# Altium schematic symbol library XTD Module.SCHLIB: 77 symbols
Pins are listed as number, name and electrical type; pins without a type are passive.

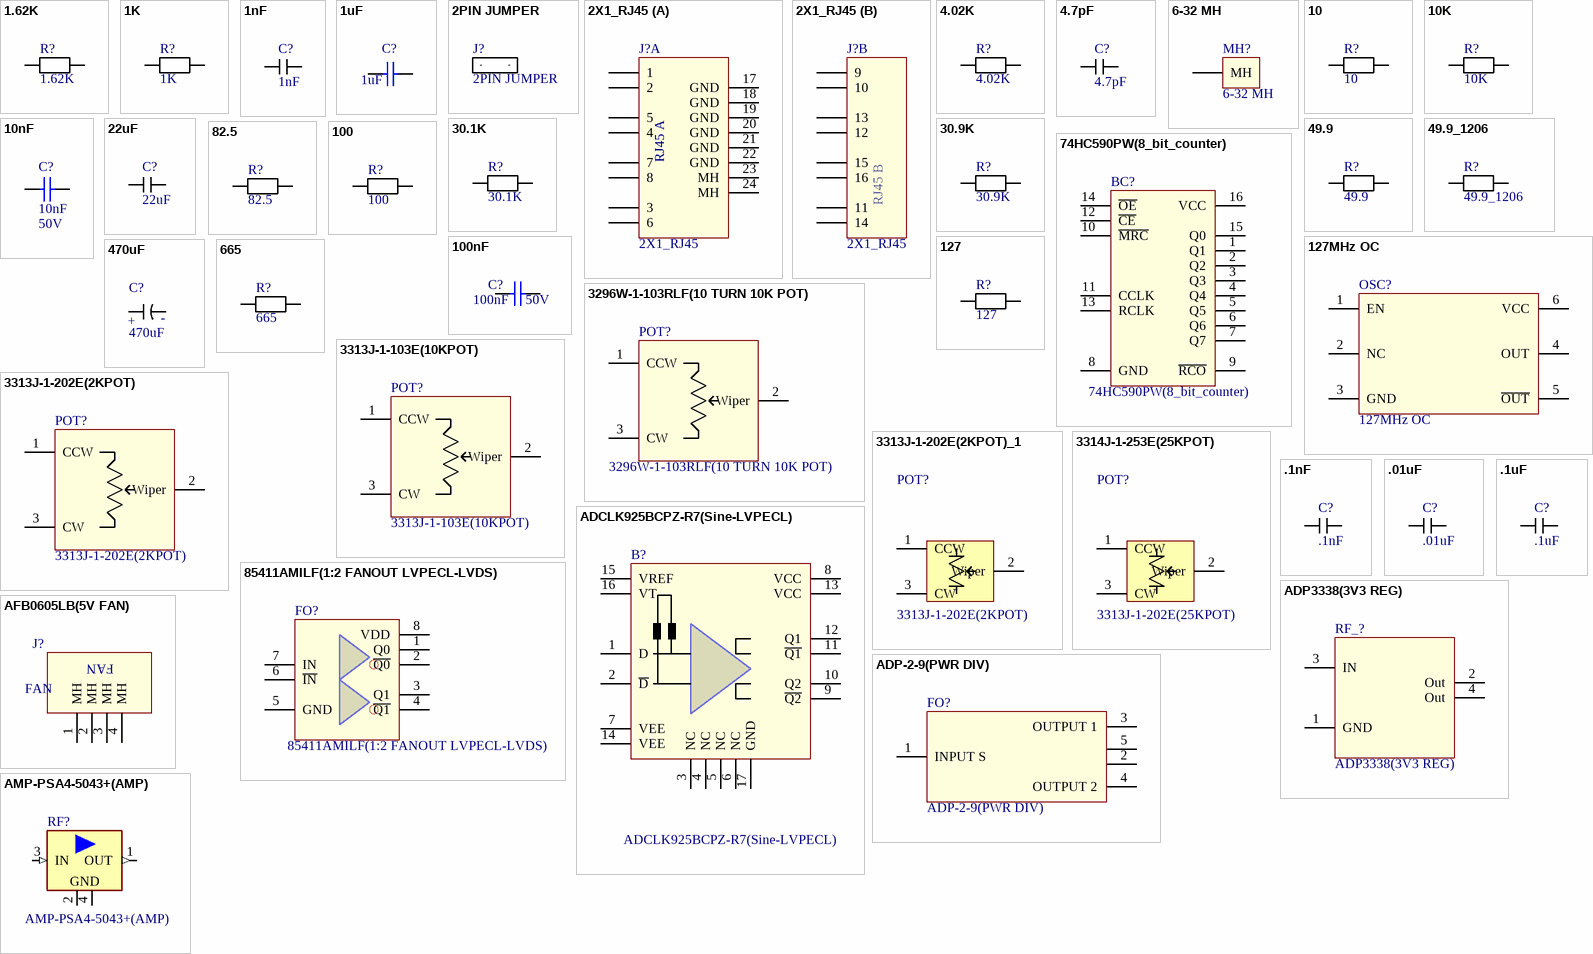
[diagram p0: symbols 1.62K to AMP-PSA4-5043+(AMP)]

## 1.62K
designator R?
RES SMD 1.62K OHM 1% 1/16W 0402; Manufacturer: Samsung Electro-Mechanics America, Inc.; Manufacturer part #: RC1005F1621CS; Cost: $0.10; Package size: RES SMD 0402; Supplier 1: Digi-Key; Supplier Part Number 1: 1276-4034-1-ND
footprint 0402 (0.039" L x 0.020" W (1.00mm x 0.50mm))
pins: 1, 2

## 1K
designator R?
RES SMD 1K OHM 5% 1/16W 0402; Manufacturer: Samsung Electro-Mechanics America, Inc.; Manufacturer part #: RC1005J102CS; Cost: $0.10; Package size: RES SMD 0402; Supplier 1: Digi-Key; Supplier Part Number 1: 1276-4376-1-ND
footprint 0402 (0.039" L x 0.020" W (1.00mm x 0.50mm))
pins: 1, 2

## 1nF
designator C?
CAP CER 1000PF 50V X7R 0402; Manufacturer: Samsung Electro-Mechanics America, Inc.; Manufacturer part #: CL05B102KB5NNNC; Cost: $0.10; Package size: CAP SMD 0402; Supplier 1: Digi-Key; Supplier Part Number 1: 1276-1032-1-ND
footprint 0402 (0.039" L x 0.020" W (1.00mm x 0.50mm))
pins: 1, 2

## 1uF
designator C?
CAP CER 1UF 25V X7R 0603; Tech: SMDR; Voltage rating: 50V; Supplier 1: Digi-Key; Supplier Part Number 1: 490-5307-1-ND; Package: Cap Chip 0603; cost: $0.28
signal-integrity model Model Name (Model Description)
footprint 0603 (0.063" L x 0.031" W (1.60mm x 0.80mm))
pins: 1, 2

## 2PIN JUMPER
designator J?
TWO PIN JUMPER; Cost: $; Supplier 1: Digi-Key; Supplier Part Number 1: 1276-4328-1-ND
footprint 2 PIN HEADER
pins: 1, 2

## 2X1_RJ45
designator J?
CONN MOD JACK 8P8C R/A SHIELDED; Manufacturer: EDAC Inc.; Manufacturer part #: A00-216-672-450; cost: $7.09; Package size: 2X1_RIGHT ANGLE_RJ-45; Supplier 1: Digi-Key; Supplier Part Number 1: 151-1076-ND
footprint 2X1 RJ45 (DOUBLE_RIGHT ANGLE_RJ-45)
part A pins: 1, 2, 3, 4, 5, 6, 7, 8, 17 GND, 18 GND, 19 GND, 20 GND, 21 GND, 22 GND, 23 MH, 24 MH
part B pins: 9, 10, 11, 12, 13, 14, 15, 16
part A text: RJ45 A
part B text: RJ45 B

## 4.02K
designator R?
RES SMD 4.02K OHM 1% 1/16W 0402; Manufacturer: Samsung Electro-Mechanics America, Inc.; Manufacturer part #: RC1005F4021CS; Digikey #: 1276-4075-1-ND; Cost: $0.10; Package size: RES SMD 0402; Supplier 1: Digi-Key; Supplier Part Number 1: 1276-4075-1-ND
footprint 0402 (0.039" L x 0.020" W (1.00mm x 0.50mm))
pins: 1, 2

## 4.7pF
designator C?
CAP CER 4.7PF 50V NP0 0603; Manufacturer: Samsung Electro-Mechanics America, Inc.; Manufacturer part #: CL10C4R7CB8NNNC; Cost: $0.10; Package size: CAP SMD 0603; Supplier 1: Digi-Key; Supplier Part Number 1: 1276-1282-1-ND
footprint 0603 (0.063" L x 0.031" W (1.60mm x 0.80mm))
pins: 1 "GROUND", 2

## 6-32 MH
designator MH?
6-32 MOUNTING HOLE
footprint 6-32 MH (6-32 MOUNTING HOLE)
pins: 1 MH

## 10
designator R?
RES SMD 10 OHM 5% 1/16W 0402; Manufacturer: Samsung Electro-Mechanics America, Inc.; Manufacturer part #: RC1005J100CS; Digikey #: 1276-4328-1-ND; Cost: $0.10; Package size: RES SMD 0402; Supplier 1: Digi-Key; Supplier Part Number 1: 1276-4328-1-ND
footprint 0402 (0.039" L x 0.020" W (1.00mm x 0.50mm))
pins: 1, 2

## 10K
designator R?
RES SMD 10K OHM 5% 1/16W 0402; Manufacturer: Samsung Electro-Mechanics America, Inc.; Manufacturer part #: RC1005F4021CS; Cost: $0.10; Package size: RES SMD 0402; Supplier 1: Digi-Key; Supplier Part Number 1: 1276-4400-1-ND
footprint 0402 (0.039" L x 0.020" W (1.00mm x 0.50mm))
pins: 1, 2

## 10nF
designator C?  Voltage rating: 50V
CAP CER 10000PF 50V X7R 0402; Manufacturer: Murata; Manufacturer No: GRM155R71H103KA88D; Tech: SMDR; Package: Cap Chip 0402; Supplier 2: Digi-Key; Supplier Part Number 2: 490-4516-1-ND; Supplier 1: Digi-Key; Supplier Part Number 1: 490-4516-1-ND; cost: $0.10
footprint 0402 (0.039" L x 0.020" W (1.00mm x 0.50mm))
pins: 1, 2

## 22uF
designator C?
CAP CER 22UF 6.3V X5R 0603; Manufacturer: Samsung Electro-Mechanics America, Inc.; Manufacturer part #: CL10A226KQ8NRNE; Cost: $0.33; Package size: CAP SMD 0603; Supplier 1: Digi-Key; Supplier Part Number 1: 1276-2867-1-ND
footprint 0603 (0.063" L x 0.031" W (1.60mm x 0.80mm))
pins: 1 "GROUND", 2

## 30.1K
designator R?
RES SMD 30.1K OHM 1% 1/16W 0402; Manufacturer: Samsung Electro-Mechanics America, Inc.; Manufacturer part #: RC1005F3012CS; Cost: $0.10; Package size: RES SMD 0402; Supplier 1: Digi-Key; Supplier Part Number 1: 1276-3457-1-ND
footprint 0402 (0.039" L x 0.020" W (1.00mm x 0.50mm))
pins: 1, 2

## 30.9K
designator R?
RES SMD 30.9K OHM 1% 1/10W 0402; Manufacturer: Panasonic Electronic Components; Manufacturer part #: ERJ-2RKF3092X; Cost: $0.10; Package size: RES SMD 0402; Supplier 1: Digi-Key; Supplier Part Number 1: P30.9KLCT-ND
footprint 0402 (0.039" L x 0.020" W (1.00mm x 0.50mm))
pins: 1, 2

## 49.9
designator R?
RES SMD 49.9 OHM 1% 1/16W 0402; Manufacturer: Samsung Electro-Mechanics America, Inc.; Manufacturer part #: RC1005F49R9CS; Cost: $0.10; Package size: RES SMD 0402; Supplier 1: Digi-Key; Supplier Part Number 1: 1276-3469-6-ND
footprint 0402 (0.039" L x 0.020" W (1.00mm x 0.50mm))
pins: 1, 2

## 49.9_1206
designator R?
RES SMD 49.9 OHM 1% 1/2W 1206; Manufacturer: Stackpole Electronics Inc.; Manufacturer part #: RNCP1206FTD49R9; Cost: $0.10; Package size: RES SMD 1206; Supplier 1: Digi-Key; Supplier Part Number 1: RNCP1206FTD49R9CT-ND
footprint RC1206N1X (Chip resistor 1206)
pins: 1, 2

## 74HC590PW(8_bit_counter)
designator BC?
IC BINARY COUNTER 8BIT 16-TSSOP; Manufacturer: NXP Semiconductors; Manufacturer part #: 74HC590PW,118; Cost: $0.60; Package size: 16-TSSOP (0.173", 4.40mm Width); Supplier 1: Digi-Key; Supplier Part Number 1: 568-8896-1-ND
footprint TSSOP_16pin (TSOP, 16-Leads, Body 5.00x4.40mm, Pitch 0.65mm, IPC Medium Density)
pins: 1 Q1, 2 Q2, 3 Q3, 4 Q4, 5 Q5, 6 Q6, 7 Q7, 8 GND, 9 ~{RCO}, 10 ~{MRC}, 11 CCLK, 12 ~{CE}, 13 RCLK, 14 ~{OE}, 15 Q0, 16 VCC

## 82.5
designator R?
RES SMD 82.5 OHM 1% 1/16W 0402; Manufacturer: Samsung Electro-Mechanics America, Inc.; Manufacturer part #: RC1005F82R5CS; Cost: $0.10; Package size: RES SMD 0402; Supplier 1: Digi-Key; Supplier Part Number 1: 1276-3937-1-ND
footprint 0402 (0.039" L x 0.020" W (1.00mm x 0.50mm))
pins: 1, 2

## 100
designator R?
RES SMD 100 OHM 5% 1/16W 0402; Manufacturer: Samsung Electro-Mechanics America, Inc.; Manufacturer part #: RC1005J101CS; Cost: $0.10; Package size: RES SMD 0402; Supplier 1: Digi-Key; Supplier Part Number 1: 1276-4352-1-ND
footprint 0402 (0.039" L x 0.020" W (1.00mm x 0.50mm))
pins: 1, 2

## 100nF
designator C?  Voltage rating: 50V
Capacitor chip ceramic 0402 50V X7R; Manufacturer: TDK; Manufacturer No: C1005X7R1H104K050BB; Tech: SMDR; Package: Cap Chip 0402; Supplier 1: Digi-Key; Supplier Part Number 1: 445-5932-1-ND; cost: $0.15
signal-integrity model Model Name (Model Description)
footprint 0402 (0.039" L x 0.020" W (1.00mm x 0.50mm))
pins: 1, 2

## 127
designator R?
RES SMD 127 OHM 1% 1/16W 0402; Manufacturer: Samsung Electro-Mechanics America, Inc.; Manufacturer part #: RC1005F1270CS; Cost: $0.10; Package size: RES SMD 0402; Supplier 1: Digi-Key; Supplier Part Number 1: 1276-3950-1-ND
footprint 0402 (0.039" L x 0.020" W (1.00mm x 0.50mm))
pins: 1, 2

## 127MHz OC
designator OSC?
OSC VCO 127.21MHZ; Cost: $; Package size: 6-QFN
footprint 127MHz OC
pins: 1 EN "ENABLE/DISABLE", 2 NC, 3 GND "GROUND", 4 OUT "NONEINVERTED OUTPUT", 5 ~{OUT} "INVERTED OUTPUT", 6 VCC "POWER INPUT"

## 470uF
designator C?
CAP ALUM 470UF 20% 50V RADIAL; Manufacturer: Nichicon; Manufacturer part #: UPW1H471MHD; Cost: $0.75; Package size: Through Hole CAP; Supplier 1: Digi-Key; Supplier Part Number 1: 493-1911-ND
footprint CAP_TH
pins: 1 "GROUND", 2
text: +; -

## 665
designator R?
RES SMD 665 OHM 1% 1/16W 0402; Manufacturer: Samsung Electro-Mechanics America, Inc.; Manufacturer part #: RC1005F6650CS; Cost: $0.10; Package size: RES SMD 0402; Supplier 1: Digi-Key; Supplier Part Number 1: 1276-4003-1-ND
footprint 0402 (0.039" L x 0.020" W (1.00mm x 0.50mm))
pins: 1, 2

## 3296W-1-103RLF(10 TURN 10K POT)
designator POT?
TRIMMER 10K OHM 0.5W PC PIN; Manufacturer: Bourns Inc.; cost: $3.93; Manufacturer part #: 3296W-1-103RLF; Package size: Rectangular - 0.375" x 0.190" Face x 0.395" H; Supplier 1: Digi-Key; Supplier Part Number 1: 3296W-1-103RLFCT-ND
footprint 10K POT (TRIMMER 10K OHM 0.5W PC PIN)
pins: 1 CCW "Control Votage", 2 Wiper "Ground", 3 CW "Supply Voltage"

## 3313J-1-103E(10KPOT)
designator POT?
TRIMMER 10K OHM 0.125W SMD; Manufacturer: Bourns Inc.; cost: $2.08; Manufacturer part #: 3313J-1-103E; Package size: Rectangular - 0.138" x 0.126" Face x 0.087" H (3.50mm x 3.20mm x 2.20mm); Supplier 1: Digi-Key; Supplier Part Number 1: 3313J-103ECT-ND
footprint 2KPOT (TRIMMER 2K OHM 0.125W SMD)
pins: 1 CCW "Control Votage", 2 Wiper "Ground", 3 CW "Supply Voltage"

## 3313J-1-202E(2KPOT)
designator POT?
TRIMMER 2K OHM 0.125W SMD; Manufacturer: Bourns Inc.; cost: $2.08; Manufacturer part #: 3313J-1-202E; Package size: Rectangular - 0.138" x 0.126" Face x 0.087" H (3.50mm x 3.20mm x 2.20mm); Supplier 1: Digi-Key; Supplier Part Number 1: 3313J-202ECT-ND
footprint 2KPOT (TRIMMER 2K OHM 0.125W SMD)
pins: 1 CCW "Control Votage", 2 Wiper "Ground", 3 CW "Supply Voltage"

## 3313J-1-202E(2KPOT)_1
designator POT?, comment 3313J-1-202E(2KPOT)
TRIMMER 2K OHM 0.125W SMD; Manufacturer: Bourns Inc.; cost: $2.08; Manufacturer part #: 3313J-1-202E; Package size: Rectangular - 0.138" x 0.126" Face x 0.087" H (3.50mm x 3.20mm x 2.20mm); Supplier 1: Digi-Key; Supplier Part Number 1: 3313J-202ECT-ND
footprint 2KPOT (TRIMMER 2K OHM 0.125W SMD)
pins: 1 CCW "Control Votage", 2 Wiper "Ground", 3 CW "Supply Voltage"

## 3314J-1-253E(25KPOT)
designator POT?, comment 3313J-1-202E(25KPOT)
TRIMMER 25K OHM 0.125W SMD; Manufacturer: Bourns Inc.; Manufacturer part #: 3314J-1-253E; cost: $2.08; Package size: Rectangular - 0.138" x 0.126" Face x 0.087" H (3.50mm x 3.20mm x 2.20mm); Supplier 1: Newark; Supplier Part Number 1: 06X9027; Supplier 2: Digi-Key; Supplier Part Number 2: 3314J-253EDKR-ND; Supplier 3: Digi-Key; Supplier Part Number 3: 3314J-253ECT-ND; Supplier 4: Digi-Key; Supplier Part Number 4: 3314J-253ETR-ND
footprint 2KPOT (TRIMMER 2K OHM 0.125W SMD)
pins: 1 CCW "Control Votage", 2 Wiper "Ground", 3 CW "Supply Voltage"

## 85411AMILF(1:2 FANOUT LVPECL-LVDS)
designator FO?
IC CLK BUFFER 1:2 650MHZ 8SOIC; Manufacturer: IDT, Integrated Device Technology Inc; cost: $11.13; Manufacturer part #: 85411AMILF; Package size: 8-SOIC (0.154", 3.90mm Width); Supplier 1: Digi-Key; Supplier Part Number 1: 800-2073-ND
footprint SOIC_8pin (SOIC, 8-Leads, Body 5.00x4.00mm, Pitch 1.27mm, IPC Medium Density)
pins: 1 Q0, 2 ~{Q0}, 3 Q1, 4 ~{Q1}, 5 GND, 6 ~{IN}, 7 IN, 8 VDD

## .1nF
designator C?
CAP CER 100PF 50V NP0 0603; Manufacturer: Samsung Electro-Mechanics America, Inc.; Manufacturer part #: CL10C101JB8NNNC; Cost: $0.10; Package size: CAP 0603; Supplier 1: Digi-Key; Supplier Part Number 1: 1276-1008-1-ND
footprint 0603 (0.063" L x 0.031" W (1.60mm x 0.80mm))
pins: 1 "GROUND", 2

## .01uF
designator C?
CAP CER 10000PF 50V X7R 0603; Manufacturer: Samsung Electro-Mechanics America, Inc.; Manufacturer part #: CL10B103KB8NCNC; Cost: $0.10; Package size: CAP 0603; Supplier 1: Digi-Key; Supplier Part Number 1: 1276-1921-1-ND; Supplier 2: Digi-Key; Supplier Part Number 2: 1276-1921-6-ND
footprint 0603 (0.063" L x 0.031" W (1.60mm x 0.80mm))
pins: 1 "GROUND", 2

## .1uF
designator C?
CAP CER 0.1UF 50V X7R 0603; Manufacturer: Samsung Electro-Mechanics America, Inc.; Manufacturer part: CL10B104KB8SFNC; Cost: $0.10; Package size: CAP SMD 0603; Supplier 1: Digi-Key; Supplier Part Number 1: 1276-1936-1-ND
footprint 0603 (0.063" L x 0.031" W (1.60mm x 0.80mm))
pins: 1 "GROUND", 2

## ADCLK925BCPZ-R7(Sine-LVPECL)
designator B?
IC CLK BUFFER 1:2 7.5GHZ 16LFCSP; Manufacturer: Analog Devices Inc.; cost: $11.54; Manufacturer part #: ADCLK925BCPZ-R7; Package size: 16-VFQFN Exposed Pad, CSP; Supplier 1: Digi-Key; Supplier Part Number 1: ADCLK925BCPZ-R7CT-ND
footprint QFN_16pin (QFN, 16-Leads, Body 3.00x3.00mm, Pitch 0.50mm, Thermal Pad 1.50x1.50mm, IPC Medium Density)
pins: 1 D "Noninverting Input", 2 ~{D} "Inverting Input", 3 NC "No Connect", 4 NC "No Connect", 5 NC "No Connect", 6 NC "No Connect", 7 VEE "Negative Supply Voltage.", 8 VCC "Positive Supply Voltage.", 9 ~{Q2} "Inverting Output 2.", 10 Q2 "Noninverting Output 2.", 11 ~{Q1} "Inverting Output 1.", 12 Q1 "Noninverting Output 1.", 13 VCC "Positive Supply Voltage.", 14 VEE "Negative Supply Voltage.", 15 VREF "Reference Voltage.", 16 VT "Center Tap. Center tap of 100 Ω input resistor.", 17 GND "Center Tap. Center tap of 100 Ω input resistor."

## ADP3338(3V3 REG)
designator RF_?
IC REG LDO 3.3V 1A SOT223-3; Manufacturer: Analog Devices Inc; Manufacturer part #: ADP3338AKCZ-3.3RL7; cost: $3.01; Package size: TO-261-4, TO-261AA; Supplier 1: Digi-Key; Supplier Part Number 1: ADP3338AKCZ-3.3-RLCT-ND
footprint ADP3338 (SOT223, 4-Leads, Body 6.50x7.00mm (avg), Pitch 2.30mm, IPC Medium Density)
footprint ADP3338 (SOT223, 4-Leads, Body 6.50x7.00mm (avg), Pitch 2.30mm, IPC Medium Density)
pins: 1 GND "Ground", 2 Out "Output", 3 IN "Input", 4 Out "Output"

## ADP-2-9(PWR DIV)
designator FO?
PWR SPL CMB / SM / RoHS5; Manufacturer: MINI_CIRCUITS; Digikey #: 800-1650-5-ND; cost: $11.95; Manufacturer part #: ADP-2-9; Package size: CD636
footprint PWR SPLITTER (SOTFL, 6-Leads, Body 7.87x6.91mm, Pitch 2.54mm, IPC Medium Density)
pins: 1 INPUT S "INPUT", 2 OUTPUT 4 "Externally connect together & isolate", 3 OUTPUT 1 "OUTPUT", 4 OUTPUT 2 "OUTPUT", 5 OUTPUT 3 "Externally connect together & isolate"

## AFB0605LB(5V FAN)
designator J?, comment FAN
FAN AXIAL 60X15MM BALL 5VDC WIRE; Manufacturer: Delta Electronics; Manufacturer part #: AFB0605LB; Unit price: $12.08; Package size: 60X15MM; Supplier 1: Digi-Key; Supplier Part Number 1: 603-1518-ND
footprint FAN (FAN AXIAL 60X15MM BALL 5VDC WIRE)
pins: 1 MH, 2 MH, 3 MH, 4 MH

## AMP-PSA4-5043+(AMP)
designator RF?
Monolithic Amplifier 50MHz - 4GHz, 0.75NF; Manufacturer: MiniCircuits; Tech: SMDR; Manufacturer No: PSA4-5043+; Package: MMM1362; Supplier 1: MiniCircuits; Supplier Part Number 1: PSA4-5043+; Supplier Unit Price 1: 2.58; cost: $11.95
footprint MMM1362
pins: 1 OUT (out), 2 GND (power), 3 IN (in), 4 GND (power)

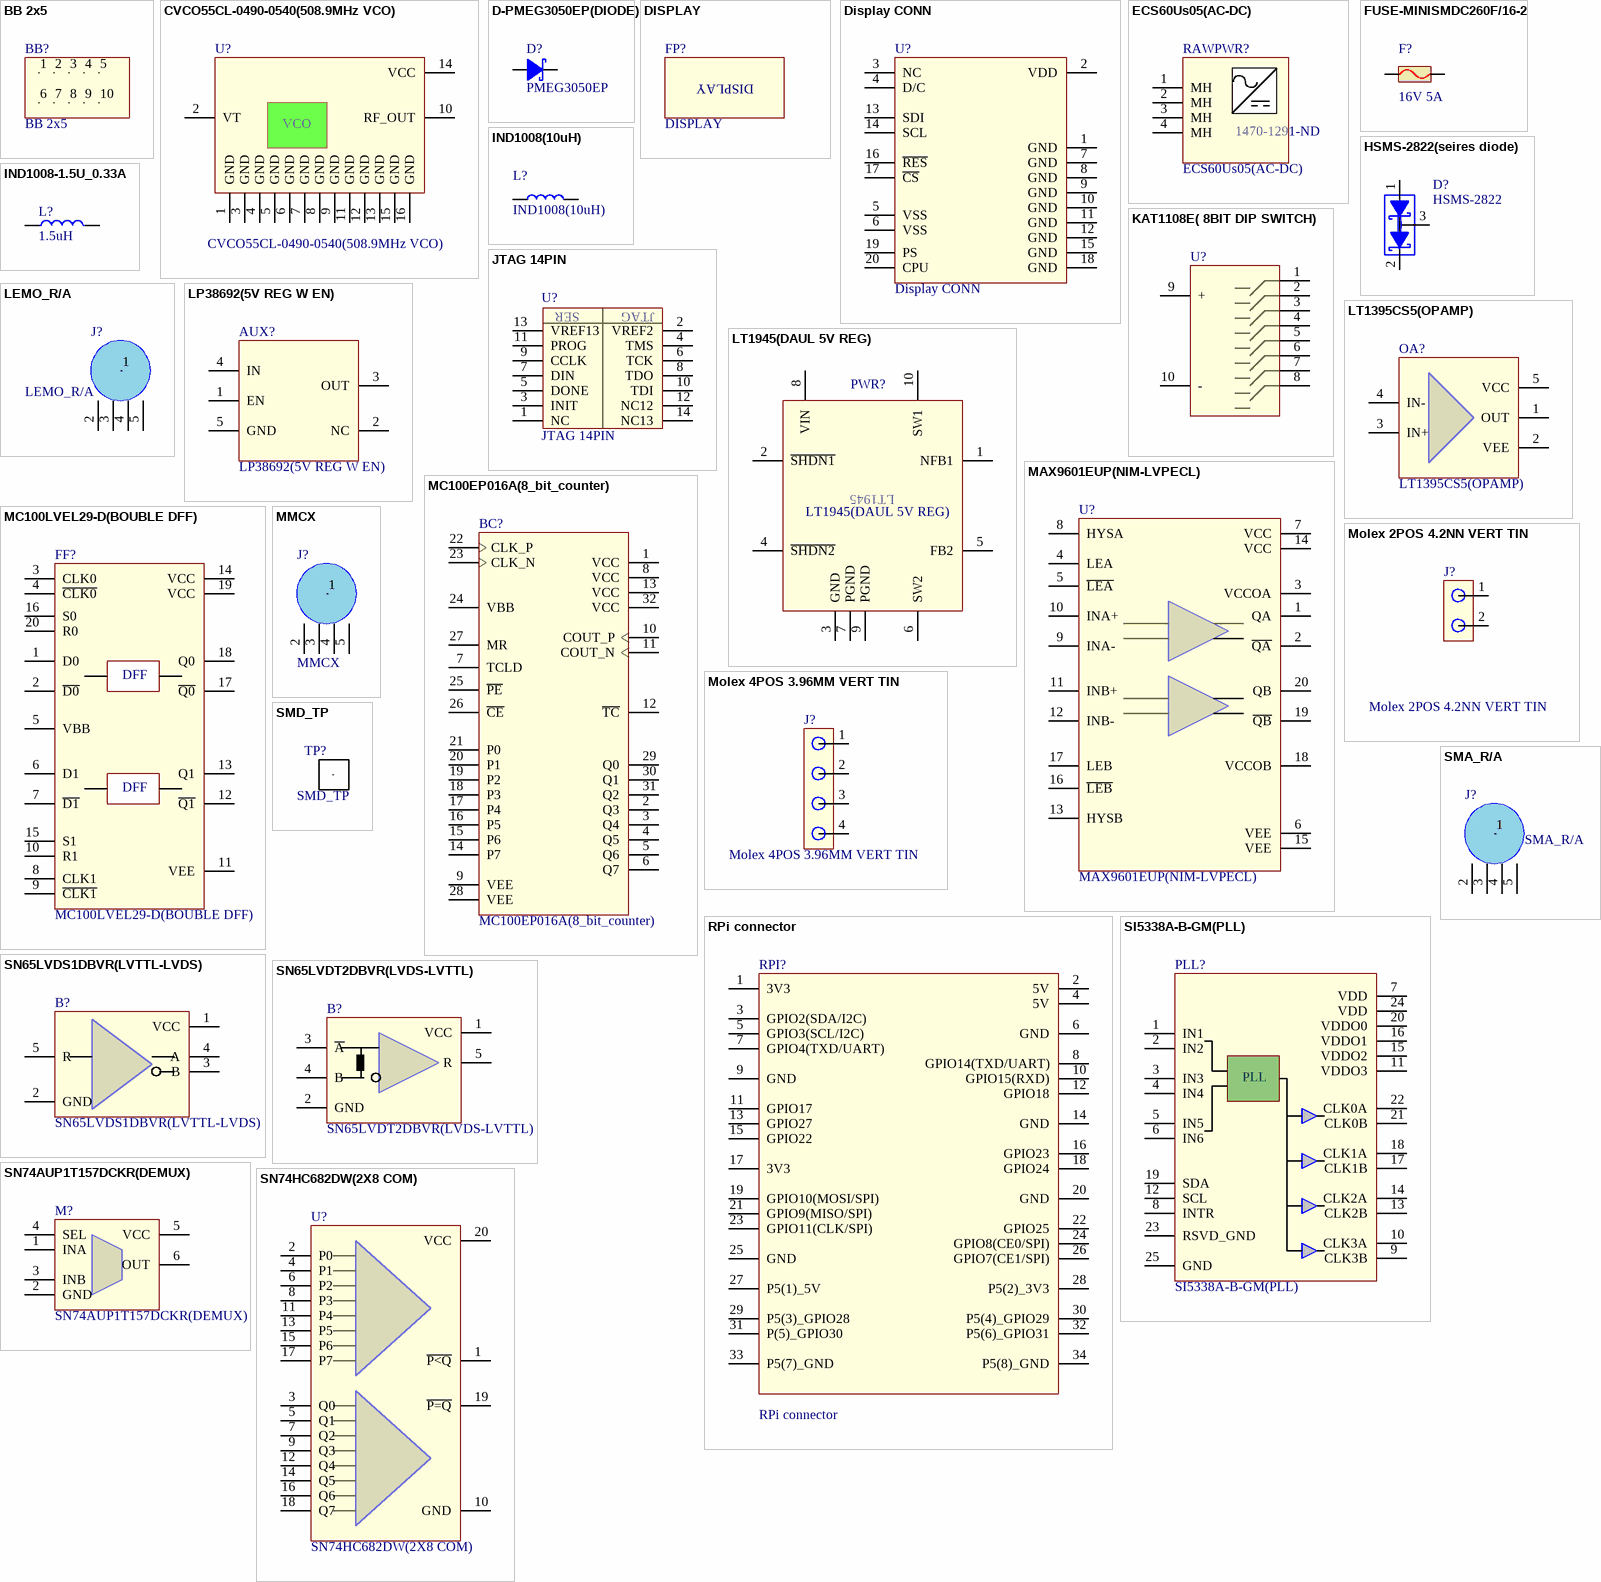
[diagram p1: symbols BB 2x5 to SN74HC682DW(2X8 COM)]

## BB 2x5
designator BB?
footprint BREAD BOARD (2X5 .1IN BREAD BAORD)
pins: 1 "POSITIVE GROUND", 2 "POSITIVE GROUND", 3 "POSITIVE GROUND", 4 "POSITIVE GROUND", 5 "POSITIVE GROUND", 6 "POSITIVE GROUND", 7 "POSITIVE GROUND", 8 "POSITIVE GROUND", 9 "POSITIVE GROUND", 10 "POSITIVE GROUND"

## CVCO55CL-0490-0540(508.9MHz VCO)
designator U?
OSC VCO 490-540MHZ SMD .5X.5"; Manufacturer: ON Semiconductor; Cost: $24.31; Manufacturer part #: CVCO55CL-0490-0540; Package size: 16-QFN, Variant; Supplier 1: Digi-Key; Supplier Part Number 1: 744-1174-ND
footprint QFN_16pin Variant (QFN, 16-Leads, Body 12.70x12.70mm, Pitch 2.54mm, Variant)
pins: 1 GND "Regulator Input Supply.", 2 VT "Control voltage", 3 GND "Regulator Input Supply.", 4 GND "Regulator Input Supply.", 5 GND "Regulator Input Supply.", 6 GND "Regulator Input Supply.", 7 GND "Regulator Input Supply.", 8 GND "Regulator Input Supply.", 9 GND "Regulator Input Supply.", 10 RF_OUT "RF OUTPUT", 11 GND "Regulator Input Supply.", 12 GND "Regulator Input Supply.", 13 GND "Regulator Input Supply.", 14 VCC "Positive power pin", 15 GND "Regulator Input Supply.", 16 GND "Regulator Input Supply."
text: VCO

## D-PMEG3050EP(DIODE)
designator D?, comment PMEG3050EP
Schottky diode 6A 30V 500ns 0.36Vf; Manufacturer: NXP; Manufacturer No: PMEG3050EP,115; Tech: SMDR; Package: D-SMA; Supplier 1: Digi-Key; Supplier Part Number 1: 568-6753-6-ND; cost: $0.48
footprint SOD128
pins: 1 C, 2 A

## DISPLAY
designator FP?
DOUBLE NIM FRONT PANEL
footprint DISPLAY

## Display CONN
designator U?
DISPLAY FULL COLOR OLED 1.69"; Manufacturer: Newhaven Display Intl; Manufacturer part #: NHD-1.69-160128UGC3; cost: $28.50; Package size: 35.00mm W x 28.00mm H; Supplier 1: Digi-Key; Supplier Part Number 1: NHD-1.69-160128UGC3-ND
footprint DISPLAY CONN (DISPLAY)
pins: 1 GND "GROUND", 2 VDD "GROUND", 3 NC "GROUND", 4 D/C, 5 VSS, 6 VSS, 7 GND "GROUND", 8 GND "GROUND", 9 GND "GROUND", 10 GND "GROUND", 11 GND "GROUND", 12 GND "GROUND", 13 SDI, 14 SCL, 15 GND "GROUND", 16 ~{RES}, 17 ~{CS}, 18 GND "GROUND", 19 PS, 20 CPU

## ECS60Us05(AC-DC)
designator RAWPWR?  Digikey #: 1470-1291-ND
AC-DC convertor; Manufacturer: XP Power; Cost: $45; Package size: 70mmx50mm; Manufacturer part #: ECS60US05; Supplier 1: Digi-Key; Supplier Part Number 1: 1470-1291-ND
footprint ECS60US05 (AC-DC Convertor, 5V at 8A)
footprint ECS60US05 (AC-DC Convertor, 5V at 8A)
pins: 1 MH, 2 MH, 3 MH, 4 MH

## FUSE-MINISMDC260F/16-2
designator F?, comment 16V 5A
PolySwitch Fuse SMD 1812 16V 5A; Manufacturer: TE Connectivity; Manufacturer No: MINISMDC260F/16-2; Tech: SMDR; Package: Chip Fuse 1812; Supplier 1: Digi-Key; Supplier Part Number 1: MINISMDC260F/16CT-ND; cost: $0.58
footprint FUSE4532-1
pins: 1, 2

## HSMS-2822(seires diode)
designator D?, comment HSMS-2822
Surface Mount RF Schottky Barrier Diodes, Series Config.; Manufacturer: Avago; Manufacturer No: HSMS-2822-TR1G; Tech: SMDR; Package: SOT23; Supplier 1: Digi-Key; Supplier Part Number 1: 516-1923-ND; cost: $0.85
footprint SOT23_3pin (SOT23, 3-Leads, Body 3.00x2.50mm, Pitch 1.00mm, IPC Medium Density)
pins: 1 A1, 2 C2, 3 C1A2

## IND1008(10uH)
designator L?
FIXED IND 10UH 520MA 854 MOHM; Manufacturer: TDK Corporation; Manufacturer part #: VLS252010T-100M; Cost: $0.83; Package size: IND SMD 0806; Supplier 1: Digi-Key; Supplier Part Number 1: 445-4251-1-ND
footprint 1008 (0.098" L x 0.079" W (2.50mm x 2.00mm))
pins: 1, 2

## IND1008-1.5U_0.33A
designator L?, comment 1.5uH
Chip inductor 1008 0.33A 2.3R; Manufacturer: Coilcraft; Manufacturer No: 1008CS-152XJLB; Tech: SMDR; Package: Chip Inductor 1008; Supplier 1: Coilcraft; Supplier Part Number 1: 1008CS-152XJLB; Supplier Unit Price 1: 0.85
signal-integrity model Model Name (Model Description)
footprint 1008 (0.098" L x 0.079" W (2.50mm x 2.00mm))
pins: 1, 2

## JTAG 14PIN
designator U?
CONN HEADER 14POS 2MM GOLD DIP; Manufacturer: Hirose Electric Co Ltd; Manufacturer part #: A3C-14P-2DSA; Cost: $1.71; Package size: 14 PIN 2MM PITCH; Supplier 1: Digi-Key; Supplier Part Number 1: H1813-ND
footprint JTAG_14PIN_2MM_VERT
pins: 1 NC "GROUND", 2 VREF2 "GROUND", 3 INIT "GROUND", 4 TMS "GROUND", 5 DONE "GROUND", 6 TCK "GROUND", 7 DIN "GROUND", 8 TDO "GROUND", 9 CCLK "GROUND", 10 TDI "GROUND", 11 PROG "GROUND", 12 NC12 "GROUND", 13 VREF13 "GROUND", 14 NC13 "GROUND"
text: SER; JTAG

## KAT1108E( 8BIT DIP SWITCH)
designator U?
DIP SW 8POS EXTEND ACTUATOR 24V; Manufacturer: Samsung Electro-Mechanics America, Inc.; Manufacturer part #: CL10B103KB8NCNC; Cost: $0.10; Package size: 0.100" (2.54mm),; Supplier 1: Digi-Key; Supplier Part Number 1: EG4555-ND
footprint 8 BIT DIP SWITCH (24.30mm X 10mm X 6.70mm PITHC 2.54mm)
pins: 1 11 "BIT 1", 2 12 "BIT 2", 3 13 "BIT 3", 4 14 "BIT 4", 5 15 "BIT 5", 6 16 "BIT 6", 7 17 "BIT 7", 8 18 "BIT 8", 9 + "GROUND", 10 - "POWER"

## LEMO_R/A
designator J?
CONN JACK R/A 50 OHM PCB; Manufacturer: LEMO; Manufacturer part #: EPL.00.250.NTN; Cost: $21.23; Package size: Panel Mount, Through Hole, Right Angle; Supplier 1: Digi-Key; Supplier Part Number 1: 1124-1008-ND
footprint LEMO_R/A (EPA.00.250.NTN, RIGHT ANGLE)
pins: 1, 2, 3 "INPUT", 4 "INPUT", 5 "INPUT"

## LP38692(5V REG W EN)
designator AUX?
IC REG LDO 5V 0.5A SOT223-5; Manufacturer: Texas Instruments; Manufacturer part #: LP38692MPX-5.0/NOPBCT-ND; cost: $1.62; Package size: SOT-223-5; Supplier 1: Digi-Key; Supplier Part Number 1: LP38692MP-5.0/NOPBDKR-ND
footprint SOT223_5pin (SOT223, 5-Leads, Body 6.50x7.00mm (avg), Pitch 1.50mm, IPC Medium Density)
pins: 1 EN "ENABLE/DISABLE", 2 NC, 3 OUT "OUTPUT", 4 IN "INPUT", 5 GND "GROUND"

## LT1395CS5(OPAMP)
designator OA?
IC OPAMP CFA 400MHZ TSOT23-5; Manufacturer: Linear Technology; Manufacturer part #: LT1395CS5#TRMPBF; Cost: $2.44; Package size: SOT-23-5 Thin, TSOT-23-5; Supplier 1: Digi-Key; Supplier Part Number 1: LT1395CS5#TRMPBFCT-ND
footprint SOT23_5PIN (SOT23, 5-Leads, Body 3.00x2.80mm, Pitch 1.00mm, IPC Medium Density)
pins: 1 OUT, 2 VEE, 3 IN+, 4 IN-, 5 VCC

## LT1945(DAUL 5V REG)
designator PWR?
IC REG BST SEPIC INV ADJ 10MSOP; Manufacturer: Linear Technology; Manufacturer part #: LT1945EMS#PBF; Cost: $4.27; Package size: 10-TFSOP, 10-MSOP (0.118", 3.00mm Width); Supplier 1: Digi-Key; Supplier Part Number 1: LT1945EMS#PBF-ND
footprint TFSOP_10pin (TSSOP, 10-Leads, Body 3.00x3.00mm, Pitch 0.50mm, IPC Medium Density)
pins: 1 NFB1 "NAGATIVE FEDDBACK", 2 ~{SHDN1} "SHUT DOWN", 3 GND "GROUND", 4 ~{SHDN2} "SHUT DOWN 2", 5 FB2 "FEEDBACK 2", 6 SW2 "FEEDBACK 2", 7 PGND "POSITIVE GROUND", 8 VIN "INPUT POWER", 9 PGND "POSITIVE GROUND", 10 SW1 "POSITIVE GROUND"
text: LT1945

## MAX9601EUP(NIM-LVPECL)
designator U?
IC COMPARATOR HS 20-TSSOP; Manufacturer: Maxim Integrated; Manufacturer part #: MAX9601EUP+; cost: $7.16; Package size: 20-TSSOP; Supplier 1: Digi-Key; Supplier Part Number 1: MAX9601EUP+-ND
footprint TSSOP_20pin (TSOP, 20-Leads, Body 6.50x4.50mm, Pitch 0.65mm, IPC Medium Density)
pins: 1 QA "Channel A Output", 2 ~{QA} "Channel A Complementary Output", 3 VCCOA "Channel A Output Driver Positive Supply", 4 LEA "Channel A Latch-Enable Input", 5 ~{LEA} "Channel A Latch-Enable Input", 6 VEE "Negative Supply Voltage", 7 VCC "Positive Supply Voltage", 8 HYSA "Channel A Hysteresis Input", 9 INA- "Channel A Minus Input", 10 INA+ "Channel A Plus Input", 11 INB+ "Channel B Plus Input", 12 INB- "Channel B Minus Input", 13 HYSB "Channel B Hysteresis Input", 14 VCC "Positive Supply Voltage", 15 VEE "Negative Supply Voltage", 16 ~{LEB} "Channel B Latch-Enable Input", 17 LEB "Channel B Latch-Enable Input", 18 VCCOB "Channel B Output Driver Positive Supply", 19 ~{QB} "Channel B Complementary Output", 20 QB "Channel B Output"

## MC100EP016A(8_bit_counter)
designator BC?
IC COUNTER 8BIT SYNC ECL 32LQFP; Manufacturer: ON Semiconductor; Manufacturer part #: MC100EP016AFAG; Cost: $22; Package size: 32-LQFP; Supplier 1: Digi-Key; Supplier Part Number 1: MC100EP016AFAGOS-ND
footprint LQFP_32pin (LQFP, 32-Leads, Body 7.00x7.00mm, Pitch 0.80mm, IPC Medium Density)
pins: 1 VCC "Positive Supply", 2 Q3 "ECL Data Outputs", 3 Q4 "ECL Data Outputs", 4 Q5 "ECL Data Outputs", 5 Q6 "ECL Data Outputs", 6 Q7 "ECL Data Outputs", 7 TCLD "ECL TC-Load Control Input (Pins will default LOW when left open)", 8 VCC "Positive Supply", 9 VEE "Negative Supply", 10 COUT_P "ECL Differential Output", 11 COUT_N "ECL Differential Output", 12 ~{TC} "ECL Terminal Count Output", 13 VCC "Positive Supply", 14 P7 "ECL Parallel Data (Preset) Inputs", 15 P6 "ECL Parallel Data (Preset) Inputs", 16 P5 "ECL Parallel Data (Preset) Inputs", 17 P4 "ECL Parallel Data (Preset) Inputs", 18 P3 "ECL Parallel Data (Preset) Inputs", 19 P2 "ECL Parallel Data (Preset) Inputs", 20 P1 "ECL Parallel Data (Preset) Inputs", 21 P0 "ECL Parallel Data (Preset) Inputs", 22 CLK_P "ECL Differential Clock", 23 CLK_N (hiz) "ECL Differential Clock", 24 VBB "Reference Voltage Output", 25 ~{PE} "ECL Parallel Load Enable Control Input (Pins will default LOW when left open)", 26 ~{CE} "ECL Count Enable Control Input (Pins will default LOW when left open)", 27 MR "ECL Master Reset (Pins will default LOW when left open)", 28 VEE "Negative Supply", 29 Q0 "ECL Data Outputs", 30 Q1 "ECL Data Outputs", 31 Q2 "ECL Data Outputs", 32 VCC "Positive Supply"

## MC100LVEL29-D(BOUBLE DFF)
designator FF?
IC D-TYPE POS TRG DUAL 20SOIC; Manufacturer: ON Semiconductor; Manufacturer part #: MC100LVEL29DWG; cost: $11.13; Package size: 20-TSSOP; Supplier 1: Digi-Key; Supplier Part Number 1: MC100LVEL29DWGOS-ND
footprint SOIC_20pin (SOIC, 20-Leads, Body 12.80x7.50mm, Pitch 1.27mm, IPC Medium Density)
pins: 1 D0 "ECL Differential Data Inputs", 2 ~{D0} "ECL Differential Data Inputs", 3 CLK0 "ECL Differential Clock Inputs", 4 ~{CLK0} "ECL Differential Clock Inputs", 5 VBB "Reference Voltage Output", 6 D1 "ECL Differential Data Inputs", 7 ~{D1} "ECL Differential Data Inputs", 8 CLK1 "ECL Differential Clock Inputs", 9 ~{CLK1} "ECL Differential Clock Inputs", 10 R1 "ECL Reset Inputs", 11 VEE "Negative Supply", 12 ~{Q1} "ECL Differential Data Outputs", 13 Q1 "ECL Differential Data Outputs", 14 VCC "Positive Supply", 15 S1 "ECL Set Inputs", 16 S0 "ECL Set Inputs", 17 ~{Q0} "ECL Differential Data Outputs", 18 Q0 "ECL Differential Data Outputs", 19 VCC "Positive Supply", 20 R0 "ECL Reset Inputs"
text: DFF

## MMCX
designator J?
CONN MMCX JACK STR 50 OHM PCB; Manufacturer: Molex, LLC; Manufacturer part #: 0734151471; Cost: $3.10; Package size: MMCX; Supplier 1: Digi-Key; Supplier Part Number 1: WM5557-ND
footprint MMCX_VERTICAL_THROUGH_HOLE
pins: 1, 2, 3 "INPUT", 4 "INPUT", 5 "INPUT"

## Molex 2POS 4.2NN VERT TIN
designator J?
CONN HEADER 2POS 4.2MM VERT TIN; Manufacturer: Molex Inc.; Manufacturer part #: 0009652048; cost: $0.67; Package size: CONN HEADER 2POS 4.2MM VERT TIN; Supplier 1: Digi-Key; Supplier Part Number 1: WM3800-ND
footprint Molex 2POS (CONN HEADER 2POS 4.2MM VERT TIN)
pins: 1 "Ground", 2 "Output"

## Molex 4POS 3.96MM VERT TIN
designator J?
CONN HEADER 4POS 3.96MM VERT TIN; Manufacturer: Molex Inc.; Manufacturer part #: 0009652048; cost: $0.67; Package size: Molex  4POS 3.96MM VERT TIN; Supplier 1: Digi-Key; Supplier Part Number 1: WM18825-ND
footprint Molex 4POS (CONN HEADER 4POS 3.96MM VERT TIN)
footprint Molex 4POS (CONN HEADER 4POS 3.96MM VERT TIN)
pins: 1 "Ground", 2 "Output", 3 "Input", 4 "Input"

## RPi connector
designator RPI?
Rpi; Digikey #: *; cost: *; Manufacturer: *; Manufacturer part #: *; Package size: *
footprint RPi (connector for RPi)
pins: 1 3V3 "External Reset", 2 5V "Frequency Table.", 3 GPIO2(SDA/I2C) "CKIN Loss of Signal.", 4 5V "No Connect", 5 GPIO3(SCL/I2C) "Supply.", 6 GND "External Crystal or Reference Clock.", 7 GPIO4(TXD/UART) "External Crystal or Reference Clock.", 8 GPIO14(TXD/UART) "Ground.", 9 GND "No Connect", 10 GPIO15(RXD) "Supply.", 11 GPIO17 "External Crystal or Reference Clock Rate.", 12 GPIO18 "No Connect", 13 GPIO27 "No Connect", 14 GND "Output 2 Disable/Bypass Mode Control", 15 GPIO22 "External Crystal or Reference Clock Rate.", 16 GPIO23 "Clock Input.", 17 3V3 "Clock Input.", 18 GPIO24 "PLL Loss of Lock Indicator.", 19 GPIO10(MOSI/SPI) "Skew Decrement", 20 GND "Skew Increment.", 21 GPIO9(MISO/SPI) "No Connect", 22 GPIO25 "Loop Bandwidth Select.", 23 GPIO11(CLK/SPI) "Loop Bandwidth Select.", 24 GPIO8(CE0/SPI) "Frequency Select.", 25 GND "Frequency Select.", 26 GPIO7(CE1/SPI) "Frequency Select.", 27 P5(1)_5V "Frequency Select.", 28 P5(2)_3V3 "Clock Output 1", 29 P5(3)_GPIO28 "Clock Output 1", 30 P5(4)_GPIO29 "Signal Format Select.", 31 P(5)_GPIO30 "Ground.", 32 P5(6)_GPIO31 "Supply.", 33 P5(7)_GND "Signal Format Select.", 34 P5(8)_GND "Clock Output 2."

## SI5338A-B-GM(PLL)
designator PLL?
IC CLK GEN I2C BUS PROG 24QFN; Manufacturer: Silicon Labs; cost: $16.71; Manufacturer part #: SI5338A-B-GM; Package size: 24-VFQFN Exposed Pad; Supplier 1: Digi-Key; Supplier Part Number 1: 336-2552-ND
footprint QFN_24pin (QFN, 24-Leads, Body 4.00x4.00mm, Pitch 0.50mm, Thermal Pad 2.50x2.50mm, IPC Medium Density)
pins: 1 IN1 "CLKIN/CLKB", 2 IN2 "Complimentery CLKIN/CLKB", 3 IN3 "Single ended input.", 4 IN4 "Single ended input.", 5 IN5 "FDBK/FDBKB", 6 IN6 "Complimentery FDBK/FDBKB", 7 VDD "Core Supply Voltage.", 8 INTR "Interrupt.", 9 CLK3B "Output Clock B for Channel 3.", 10 CLK3A "Output Clock A for Channel 3.", 11 VDDO3 "Output Clock Supply Voltage.", 12 SCL "I2C Serial Clock Input.", 13 CLK2B "Output Clock B for Channel 2.", 14 CLK2A "Output Clock A for Channel 2.", 15 VDDO2 "Output Clock Supply Voltage.", 16 VDDO1 "Output Clock Supply Voltage.", 17 CLK1B "Output Clock B for Channel 1.", 18 CLK1A "Output Clock A for Channel 1", 19 SDA "I2C Serial Data.", 20 VDDO0 "Output Clock Supply Voltage.", 21 CLK0B "Output Clock B for Channel 0.", 22 CLK0A "Output Clock A for Channel 0", 23 RSVD_GND "Ground", 24 VDD "Core Supply Voltage", 25 GND "Core Supply Voltage"
text: PLL

## SMA_R/A
designator J?
CONN SMA JACK R/A 50 OHM PCB; Manufacturer: Molex, LLC; Manufacturer part #: 0732512201; Cost: $6.46; Package size: SMA; Supplier 1: Digi-Key; Supplier Part Number 1: WM5537-ND
footprint SMA_R/A (Panel Mount, Bulkhead; Through Hole,RIGHT ANGLE)
pins: 1, 2, 3 "INPUT", 4 "INPUT", 5 "INPUT"

## SMD_TP
designator TP?
SURFACE MOUNT TEST POINT; Supplier 1: Digi-Key; Supplier Part Number 1: 36-5001-ND
footprint SMD_TP (SURFACE MOUNT TEST PAD)
pins: 1 TP "test point"

## SN65LVDS1DBVR(LVTTL-LVDS)
designator B?
IC HIGH DIFF LINE DRIVER SOT23-5; Manufacturer: Texas Instruments; cost: $1.53; Package size: SOT-23-5; Supplier 1: Digi-Key; Supplier Part Number 1: 296-6919-1-ND; Manufacturer #: SN65LVDS1DBVR
footprint SOT23_5PIN (SOT23, 5-Leads, Body 3.00x2.80mm, Pitch 1.00mm, IPC Medium Density)
pins: 1 VCC, 2 GND, 3 B "Noninverting Input", 4 A "Inverting Input", 5 R

## SN65LVDT2DBVR(LVDS-LVTTL)
designator B?
IC DIFF LINE RECEIVER SOT-23-5; Manufacturer: Texas Instruments; cost: $1.55; Package size: SOT-23-5; Supplier 1: Digi-Key; Supplier Part Number 1: 296-6896-1-ND; Manufacturer #: SN65LVDT2DBVR
footprint SOT23_5PIN (SOT23, 5-Leads, Body 3.00x2.80mm, Pitch 1.00mm, IPC Medium Density)
pins: 1 VCC, 2 GND, 3 ~{A} "Noninverting Input", 4 B "Inverting Input", 5 R

## SN74AUP1T157DCKR(DEMUX)
designator M?
IC BUFF/MUX SCHMITT-TRIG SC70-6; Manufacturer: Texas Instruments; Cost: $0.90; Manufacturer part #: SN74AUP1T157DCKR; Package size: 6-TSSOP, SC-88, SOT-363; Supplier 1: Digi-Key; Supplier Part Number 1: 296-27393-1-ND
footprint TSSOP_6PIN (TSOP, 6-Leads, Body 2.15x1.40mm, Pitch 0.65mm, IPC Medium Density)
pins: 1 INA, 2 GND, 3 INB, 4 SEL, 5 VCC, 6 OUT

## SN74HC682DW(2X8 COM)
designator U?
IC COMPARATOR MAGNITUDE 20SOIC; Manufacturer: Texas Instruments; Cost: $5.04; Manufacturer part #: SN74HC682DW; Package size: 20-SOIC (0.295", 7.50mm Width); Supplier 1: Digi-Key; Supplier Part Number 1: 296-8356-1-ND
footprint SOIC_20pin (SOIC, 20-Leads, Body 12.80x7.50mm, Pitch 1.27mm, IPC Medium Density)
pins: 1 ~{P<Q} "OUTPUT", 2 P0 "OUTPUT", 3 Q0 "OUTPUT", 4 P1 "OUTPUT", 5 Q1 "OUTPUT", 6 P2 "OUTPUT", 7 Q2 "OUTPUT", 8 P3 "OUTPUT", 9 Q3 "OUTPUT", 10 GND "OUTPUT", 11 P4 "OUTPUT", 12 Q4 "OUTPUT", 13 P5 "OUTPUT", 14 Q5 "OUTPUT", 15 P6 "OUTPUT", 16 Q6 "OUTPUT", 17 P7 "OUTPUT", 18 Q7 "OUTPUT", 19 ~{P=Q} "OUTPUT", 20 VCC "OUTPUT"

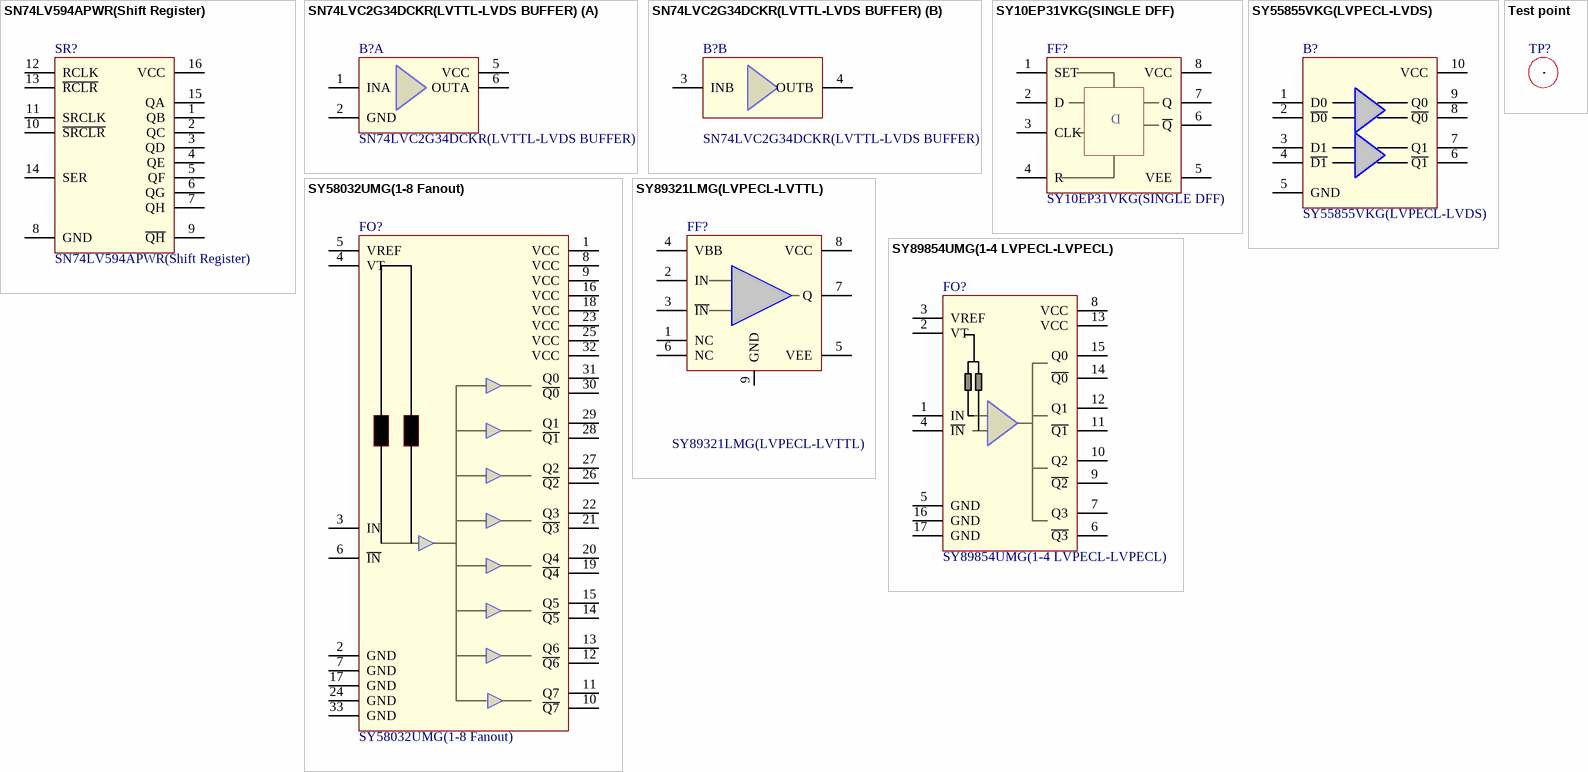
[diagram p2: symbols SN74LV594APWR(Shift Register) to Test point]

## SN74LV594APWR(Shift Register)
designator SR?
IC 8-BIT SHFT REG W/OUT 16-TSSOP; Manufacturer: Texas Instruments; cost: $0.9; Manufacturer part #: SN74LV594APWR; Package size: 8-SOIC (0.154", 3.90mm Width); Supplier 1: Digi-Key; Supplier Part Number 1: 296-3842-1-ND
footprint TSSOP_16pin (TSOP, 16-Leads, Body 5.00x4.40mm, Pitch 0.65mm, IPC Medium Density)
pins: 1 QB "Output B", 2 QC "Output C", 3 QD "Output D", 4 QE "Output E", 5 QF "Output F", 6 QG "Output G", 7 QH "Output H", 8 GND "GROUND", 9 ~{QH} "QH inverted", 10 ~{SRCLR} "Serial clear", 11 SRCLK "Serial clock", 12 RCLK "Storage clock", 13 ~{RCLR} "Stroage clear", 14 SER "Serial input", 15 QA "Output A", 16 VCC "power pin."

## SN74LVC2G34DCKR(LVTTL-LVDS BUFFER)
designator B?
IC BUFFER DUAL NON-INV SC706; Manufacturer: Texas Instruments; Cost: $0.57; Manufacturer part #: SN74LVC2G34DCKR; Package size: 6-TSSOP, SC-88, SOT-363; Supplier 1: Digi-Key; Supplier Part Number 1: 296-13497-6-ND
footprint TSSOP_6PIN (TSOP, 6-Leads, Body 2.15x1.40mm, Pitch 0.65mm, IPC Medium Density)
part A pins: 1 INA, 2 GND, 5 VCC, 6 OUTA
part B pins: 3 INB, 4 OUTB

## SY10EP31VKG(SINGLE DFF)
designator FF?
IC D-TYPE POS TRG SNGL 8MSOP; Manufacturer: Micrel Inc.; cost: $5.32; Manufacturer part #: SY10EP31VKG; Package size: 8-SOIC (0.154", 3.90mm Width); Supplier 1: Digi-Key; Supplier Part Number 1: 576-2518-ND
footprint MSOP8N
pins: 1 SET "CLOCK INPUT", 2 D "J INPUT", 3 CLK "K INPUT", 4 R "RESET", 5 VEE "GROUND", 6 ~{Q} "INVERTED OUTPUT", 7 Q "NONINVERTED OUTPUT", 8 VCC "POWER"

## SY55855VKG(LVPECL-LVDS)
designator B?
IC TRANSLATOR DUAL LVDS 10MSOP; Manufacturer: Micrel Inc.; cost: $8.03; Manufacturer part #: SY55855VKG; Package size: 10-TFSOP, 10-MSOP (0.118", 3.00mm Width); Supplier 1: Digi-Key; Supplier Part Number 1: 576-1376-ND
footprint TFSOP_10pin (TSSOP, 10-Leads, Body 3.00x3.00mm, Pitch 0.50mm, IPC Medium Density)
pins: 1 D0 "CML/PECL/LVPECL Input (Differential)", 2 ~{D0} "CML/PECL/LVPECL Input (Differential)", 3 D1 "CML/PECL/LVPECL Input (Differential)", 4 ~{D1} "CML/PECL/LVPECL Input (Differential)", 5 GND "Ground.", 6 ~{Q1} "LVDS Output (Differential)", 7 Q1 "LVDS Output (Differential)", 8 ~{Q0} "LVDS Output (Differential)", 9 Q0 "LVDS Output (Differential)", 10 VCC "Positive input."

## SY58032UMG(1-8 Fanout)
designator FO?
IC CLK BUFFER 1:8 4GHZ 32MLF; Manufacturer: Micrel Inc.; cost: $13.44; Manufacturer part #: SY58032UMG; Package size: 32-VFQFN Exposed Pad, 32-MLF®; Supplier 1: Digi-Key; Supplier Part Number 1: 576-1389-ND
footprint MLF_QFN_32PIN (PQFN, 32-Leads, Body 5.00x5.00mm, Pitch 0.50mm, Thermal Pad 3.10x3.10mm, IPC Medium Density)
pins: 1 VCC, 2 GND, 3 IN, 4 VT, 5 VREF, 6 ~{IN}, 7 GND, 8 VCC, 9 VCC, 10 ~{Q7}, 11 Q7, 12 ~{Q6}, 13 Q6, 14 ~{Q5}, 15 Q5, 16 VCC, 17 GND, 18 VCC, 19 ~{Q4}, 20 Q4, 21 ~{Q3}, 22 Q3, 23 VCC, 24 GND, 25 VCC, 26 ~{Q2}, 27 Q2, 28 ~{Q1}, 29 Q1, 30 ~{Q0}, 31 Q0, 32 VCC, 33 GND

## SY89321LMG(LVPECL-LVTTL)
designator FF?
IC TRANSLATOR LVPECL-LVTTL 8-MLF; Manufacturer: Micrel Inc.; Manufacturer part #: SY89321LMG TR; cost: $3.60; Package size: IC TRANSLATOR LVPECL-LVTTL 8-MLF; Supplier 1: Digi-Key; Supplier Part Number 1: 576-2954-1-ND
footprint DFN_8PIN (DFN, 8-Leads, Body 2.00x2.00mm, Pitch 0.50mm, Thermal Pad 1.55x1.55mm, IPC Medium Density)
pins: 1 NC "CLOCK INPUT", 2 IN "INPUT", 3 ~{IN} "INPUT", 4 VBB "REFERANCE", 5 VEE "GROUND", 6 NC, 7 Q "LVTTL OUTPUT", 8 VCC "POWER", 9 GND "POWER"

## SY89854UMG(1-4 LVPECL-LVPECL)
designator FO?
IC CLK BUFFER 1:4 3.5GHZ 16MLF; Manufacturer: Micrel Inc.; cost: $4.51; Manufacturer part #: SY89854UMG; Package size: 16-VFQFN Exposed Pad, 16-MLF®; Supplier 1: Digi-Key; Supplier Part Number 1: 576-2100-5-ND
footprint VFQFN_16PIN (QFN, 16-Leads, Body 3.00x3.00mm, Pitch 0.50mm, Thermal Pad 1.55x1.55mm, IPC Medium Density)
pins: 1 IN "Differential Inputs", 2 VT "Input Termination Center", 3 VREF "Reference Voltage:", 4 ~{IN} "Differential Inputs", 5 GND "INPUT", 6 ~{Q3} "Differential 100K LVPECL Outputs", 7 Q3 "Differential 100K LVPECL Outputs", 8 VCC "Positive Power Supply", 9 ~{Q2} "Differential 100K LVPECL Outputs", 10 Q2 "Differential 100K LVPECL Outputs", 11 ~{Q1} "Differential 100K LVPECL Outputs", 12 Q1 "Differential 100K LVPECL Outputs", 13 VCC "Positive Power Supply", 14 ~{Q0} "Differential 100K LVPECL Outputs", 15 Q0 "Differential 100K LVPECL Outputs", 16 GND "INPUT", 17 GND "INPUT"

## Test point
designator TP?
TEST POINT PC MINI .040"D BLACK; Manufacturer: Keystone Electronics; Manufacturer part #: 5001; Digikey #: 36-5001-ND; cost: $0.36; Package size: SOT-223-5
footprint Test Point (TEST POINT PC MINI .040"D BLACK)
pins: 1 TP "test point"